# Altium footprint library Resistors THD.PcbLib: 11 footprints
Each footprint in its own frame and in the unit in brackets; x right, y up, seen from the top. Pads: shape width x height; smd on the part's side, far side on the other; paste and mask are expansions set on the pad; w line width, h text height; cw(c..) or ccw(c..) is an arc to the next point about the centre after c.
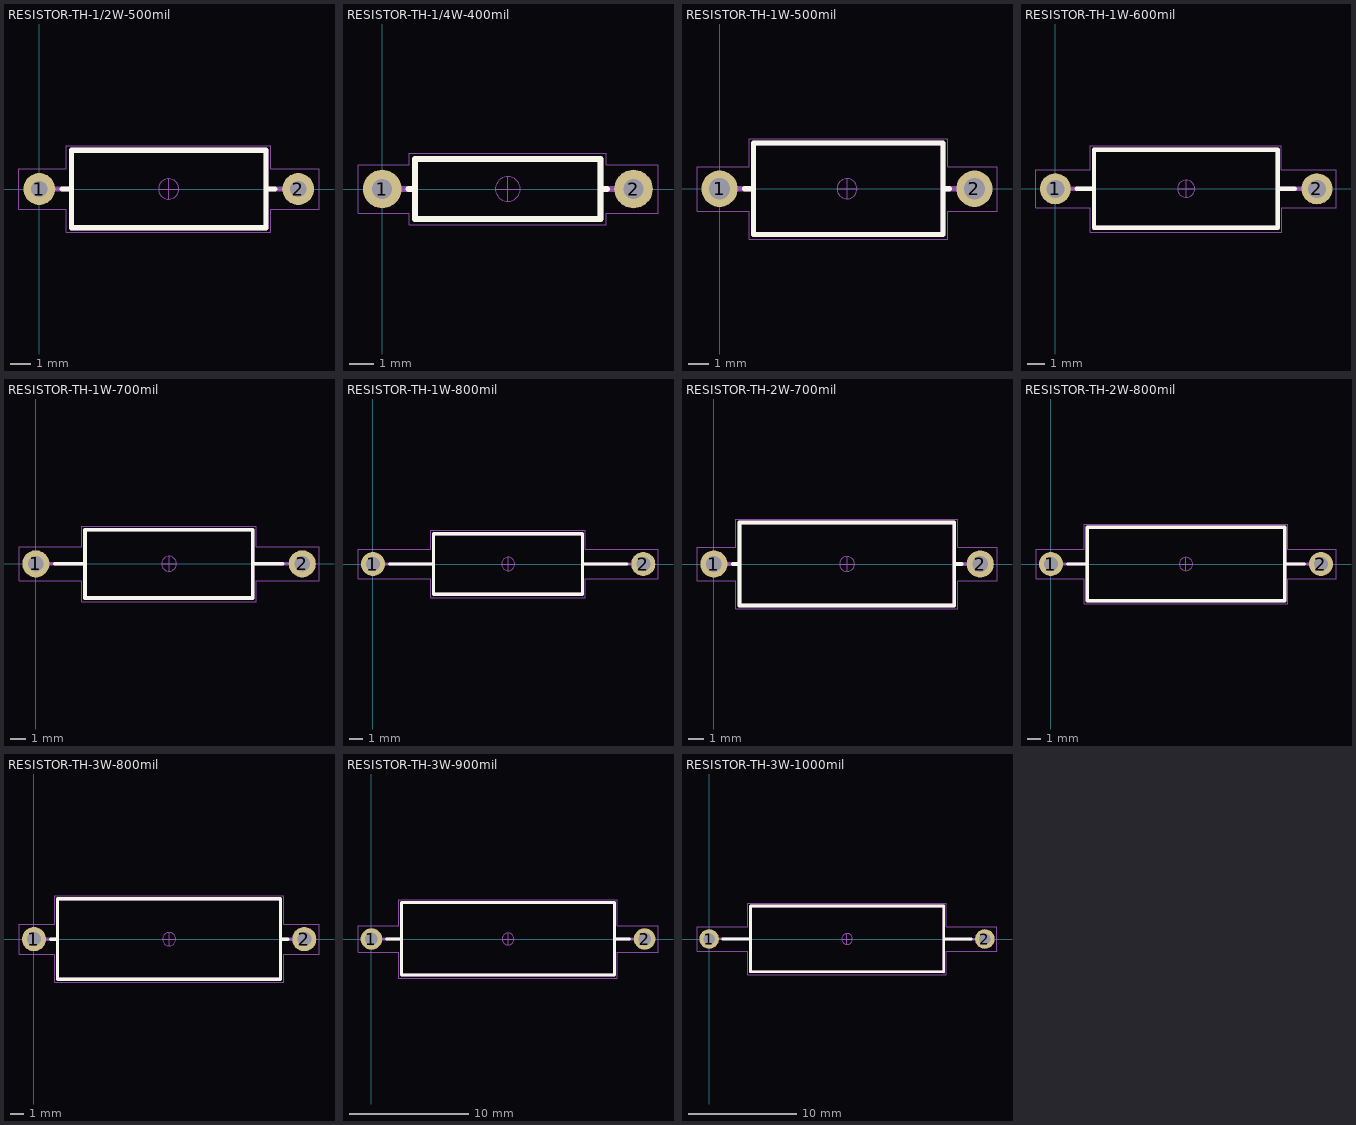
[diagram p0: the footprints below, top view; thin cyan lines are the x and y axes]

## RESISTOR-TH-1/2W-500mil [mm] "Resistor Through-Hole 1/2W pitch 500 mil"
height 3.775
pads (2):
  round 1.56 hole 0.8 mask+0.07: 1(0,0) 2(12.7,0)
Top Overlay:
  lines w0.25: 1.125,0 1.575,0 ; 11.125,0 11.575,0 ; 1.575,-1.9 1.575,1.9 11.125,1.9 11.125,-1.9 1.575,-1.9
Top Component Outline:
  lines w0.25: 0.508,0 1.575,0 ; 11.125,0 12.202,0 ; 1.575,-1.9 1.575,1.9 11.125,1.9 11.125,-1.9 1.575,-1.9
  text "'.Comment'" at 3.007,-1.554 h1.5
Top Courtyard:
  lines w0.05: -1,-1 1.325,-1 1.325,-2.125 11.35,-2.125 11.35,-1 13.725,-1 13.725,1 11.35,1 11.35,2.125 1.325,2.125 1.325,1 -1,1 -1,-1
Top Component Center:
  circle w0.025: c6.35,0 r0.5
  lines w0.025: 5.85,0 6.35,0 ; 6.35,-0.5 6.35,0 ; 6.35,0.5 6.35,0 ; 6.85,0 6.35,0
Top Designator:
  text "'.Designator'" at 2.683,-0.336 h1.5
Top Assembly:
  lines w0.25: 0.508,0 1.575,0 ; 11.125,0 12.202,0 ; 1.575,-1.9 1.575,1.9 11.125,1.9 11.125,-1.9 1.575,-1.9
  text "'.Designator'" at 2.683,-0.336 h1.5
3D body "Res50-Axial 0_5W-1K.step": height 3.78, standoff -5.6, extent -0.375,-1.875 13.075,1.875

## RESISTOR-TH-1/4W-400mil [mm] "Resistor Through-Hole 1/4W pitch 400 mil"
height 2.413
pads (2):
  round 1.56 hole 0.8 mask+0.07: 1(0,0) 2(10.16,0)
Top Overlay:
  lines w0.25: 1.075,0 1.325,0 ; 8.825,-0.002 9.075,-0.002 ; 1.325,-1.211 1.325,1.214 8.825,1.214 8.825,-1.211 1.325,-1.211
Top Component Outline:
  lines w0.25: 0.508,0 1.325,0 ; 8.825,0 9.652,0 ; 1.325,-1.211 1.325,1.214 8.825,1.214 8.825,-1.211 1.325,-1.211
  text "'.Comment'" at 1.737,-0.962 h1.5
Top Courtyard:
  lines w0.05: -0.975,-0.975 1.1,-0.975 1.1,-1.45 9.05,-1.45 9.05,-0.975 11.15,-0.975 11.15,0.975 9.05,0.975 9.05,1.45 1.1,1.45 1.1,0.975 -0.975,0.975 -0.975,-0.975
Top Component Center:
  circle w0.025: c5.08,0 r0.5
  lines w0.025: 4.58,0 5.08,0 ; 5.08,-0.5 5.08,0 ; 5.08,0.5 5.08,0 ; 5.58,0 5.08,0
Top Designator:
  text "'.Designator'" at 1.413,-0.336 h1.5
Top Assembly:
  lines w0.25: 0.508,0 1.325,0 ; 8.825,0 9.652,0 ; 1.325,-1.211 1.325,1.214 8.825,1.214 8.825,-1.211 1.325,-1.211
  text "'.Designator'" at 1.413,-0.336 h1.5
3D body "Res40-Axial 0_25W-1K.step": height 2.41, standoff -2, extent -0.3,-1.2 10.46,1.2

## RESISTOR-TH-1W-500mil [mm] "Resistor Through-Hole 1W pitch 500 mil"
height 4.52
pads (2):
  round 1.81 hole 1.05 mask+0.07: 1(0,0) 2(12.7,0)
Top Overlay:
  lines w0.25: 1.25,0 1.7,0 ; 11.125,0 11.45,0 ; 1.7,-2.275 1.7,2.275 11.125,2.275 11.125,-2.275 1.7,-2.275
Top Component Outline:
  lines w0.25: 0.508,0 1.575,0 ; 11.125,0 12.202,0 ; 1.7,-2.275 1.7,2.275 11.125,2.275 11.125,-2.275 1.7,-2.275
  text "'.Comment'" at 3.007,-1.979 h1.5
Top Courtyard:
  lines w0.05: -1.125,-1.125 1.475,-1.125 1.475,-2.525 11.375,-2.525 11.375,-1.125 13.825,-1.125 13.825,1.1 11.375,1.1 11.375,2.5 1.475,2.5 1.475,1.1 -1.125,1.1 -1.125,-1.125
Top Component Center:
  circle w0.025: c6.35,0 r0.5
  lines w0.025: 5.85,0 6.35,0 ; 6.35,-0.5 6.35,0 ; 6.35,0.5 6.35,0 ; 6.85,0 6.35,0
Top Designator:
  text "'.Designator'" at 2.683,-0.336 h1.5
Top Assembly:
  lines w0.25: 0.508,0 1.575,0 ; 11.125,0 12.202,0 ; 1.7,-2.275 1.7,2.275 11.125,2.275 11.125,-2.275 1.7,-2.275
  text "'.Designator'" at 2.683,-0.336 h1.5
3D body "Res50 1W SilCoat.step": height 4.52, standoff -2, extent -0.375,-2.25 13.075,2.25

## RESISTOR-TH-1W-600mil [mm] "Resistor Through-Hole 1W pitch 600 mil"
height 4.52
pads (2):
  round 1.81 hole 1.05 mask+0.07: 1(0,0) 2(15.24,0)
Top Overlay:
  lines w0.25: 1.25,0 2.25,0 ; 12.95,0 13.95,0 ; 2.25,-2.275 12.95,-2.275 12.95,2.275 2.25,2.275 2.25,-2.275
Top Component Outline:
  lines w0.25: 0.508,0 2.25,0 ; 12.95,0 14.602,0 ; 2.25,-2.275 12.95,-2.275 12.95,2.275 2.25,2.275 2.25,-2.275
  text "'.Comment'" at 4.277,-1.979 h1.5
Top Courtyard:
  lines w0.05: -1.125,-1.1 -1.125,1.1 2.025,1.1 2.025,2.5 13.175,2.5 13.175,1.1 16.35,1.1 16.35,-1.1 13.2,-1.1 13.2,-2.525 2.025,-2.525 2.025,-1.1 -1.125,-1.1
Top Component Center:
  circle w0.025: c7.62,0 r0.5
  lines w0.025: 7.12,0 7.62,0 ; 7.62,-0.5 7.62,0 ; 7.62,0.5 7.62,0 ; 8.12,0 7.62,0
Top Designator:
  text "'.Designator'" at 3.953,-0.336 h1.5
Top Assembly:
  lines w0.25: 0.508,0 2.25,0 ; 12.95,0 14.602,0 ; 2.25,-2.275 12.95,-2.275 12.95,2.275 2.25,2.275 2.25,-2.275
  text "'.Designator'" at 3.953,-0.336 h1.5
3D body "Res60 1W SilCoat Master.step": height 4.52, standoff -2, extent -0.37,-2.25 15.62,2.25

## RESISTOR-TH-1W-700mil [mm] "Resistor Through-Hole 1W pitch 700 mil"
height 4.52
pads (2):
  round 1.81 hole 1.05 mask+0.07: 1(0,0) 2(17.78,0)
Top Overlay:
  lines w0.25: 1.265,0 3.265,0 ; 14.475,0 16.475,0 ; 3.275,-2.275 14.475,-2.275 14.475,2.275 3.275,2.275 3.275,-2.275
Top Component Outline:
  lines w0.25: 0.508,0 3.275,0 ; 14.475,0 17.127,0 ; 3.275,-2.275 14.475,-2.275 14.475,2.275 3.275,2.275 3.275,-2.275
  text "'.Comment'" at 5.547,-1.979 h1.5
Top Courtyard:
  lines w0.05: -1.125,-1.125 -1.125,1.125 3.05,1.125 3.05,2.5 14.725,2.5 14.725,1.125 18.9,1.125 18.9,-1.125 14.725,-1.125 14.725,-2.525 3.05,-2.525 3.05,-1.125 -1.125,-1.125
Top Component Center:
  circle w0.025: c8.89,0 r0.5
  lines w0.025: 8.39,0 8.89,0 ; 8.89,-0.5 8.89,0 ; 8.89,0.5 8.89,0 ; 9.39,0 8.89,0
Top Designator:
  text "'.Designator'" at 5.223,-0.336 h1.5
Top Assembly:
  lines w0.25: 0.508,0 3.275,0 ; 14.475,0 17.127,0 ; 3.275,-2.275 14.475,-2.275 14.475,2.275 3.275,2.275 3.275,-2.275
  text "'.Designator'" at 5.223,-0.336 h1.5
3D body "Res70 1W SilCoat.step": height 4.52, standoff -2, extent -0.375,-2.25 18.155,2.25

## RESISTOR-TH-1W-800mil [mm] "Resistor Through-Hole 1W pitch 800 mil"
height 4.52
pads (2):
  round 1.81 hole 1.05 mask+0.07: 1(0,0) 2(20.32,0)
Top Overlay:
  lines w0.25: 1.25,0 4.55,0 ; 15.775,0 19.075,0 ; 4.55,-2.275 15.75,-2.275 15.75,2.275 4.55,2.275 4.55,-2.275
Top Component Outline:
  lines w0.25: 0.508,0 4.55,0 ; 15.75,0 19.652,0 ; 4.55,-2.275 15.75,-2.275 15.75,2.275 4.55,2.275 4.55,-2.275
  text "'.Comment'" at 6.817,-1.979 h1.5
Top Courtyard:
  lines w0.05: -1.125,-1.125 -1.125,1.125 4.325,1.125 4.325,2.525 15.975,2.525 15.975,1.125 21.425,1.125 21.425,-1.125 15.975,-1.125 15.975,-2.525 4.325,-2.525 4.325,-1.125 -1.125,-1.125
Top Component Center:
  circle w0.025: c10.16,0 r0.5
  lines w0.025: 9.66,0 10.16,0 ; 10.16,-0.5 10.16,0 ; 10.16,0.5 10.16,0 ; 10.66,0 10.16,0
Top Designator:
  text "'.Designator'" at 6.493,-0.336 h1.5
Top Assembly:
  lines w0.25: 0.508,0 4.55,0 ; 15.75,0 19.652,0 ; 4.55,-2.275 15.75,-2.275 15.75,2.275 4.55,2.275 4.55,-2.275
  text "'.Designator'" at 6.493,-0.336 h1.5
3D body "Res80 1W SilCoat.step": height 4.52, standoff -2, extent -0.375,-2.25 20.695,2.25

## RESISTOR-TH-2W-700mil [mm] "Resistor Through-Hole 2W pitch 700 mil"
height 5.27
pads (2):
  round 1.81 hole 1.05 mask+0.07: 1(0,0) 2(17.78,0)
Top Overlay:
  lines w0.25: 1.265,0 1.715,0 ; 16.075,0 16.525,0 ; 1.715,-2.775 16.05,-2.775 16.05,2.775 1.715,2.775 1.715,-2.775
Top Component Outline:
  lines w0.25: 0.508,0 1.575,0 ; 16.05,0 17.127,0 ; 1.715,-2.775 1.715,2.775 16.05,2.775 16.05,-2.775 1.715,-2.775
  text "'.Comment'" at 5.547,-2.479 h1.5
Top Courtyard:
  lines w0.05: -1.125,-1.125 -1.125,1.125 1.475,1.125 1.475,3 16.275,3 16.275,1.125 18.9,1.125 18.9,-1.125 16.275,-1.125 16.275,-3 1.475,-3 1.475,-1.125 -1.125,-1.125
Top Component Center:
  circle w0.025: c8.89,0 r0.5
  lines w0.025: 8.39,0 8.89,0 ; 8.89,-0.5 8.89,0 ; 8.89,0.5 8.89,0 ; 9.39,0 8.89,0
Top Designator:
  text "'.Designator'" at 5.223,-0.336 h1.5
Top Assembly:
  lines w0.25: 0.508,0 1.575,0 ; 16.05,0 17.127,0 ; 1.715,-2.775 16.05,-2.775 16.05,2.775 1.715,2.775 1.715,-2.775
  text "'.Designator'" at 5.223,-0.336 h1.5
3D body "Res70 2W SilCoat.step": height 5.27, standoff -2, extent -0.375,-2.875 18.215,2.625

## RESISTOR-TH-2W-800mil [mm] "Resistor Through-Hole 2W pitch 800 mil"
height 5.27
pads (2):
  round 1.81 hole 1.05 mask+0.07: 1(0,0) 2(20.32,0)
Top Overlay:
  lines w0.25: 1.265,0 2.731,0 ; 17.6,0 19.066,0 ; 2.735,-2.775 2.735,2.775 17.585,2.775 17.585,-2.775 2.735,-2.775
Top Component Outline:
  lines w0.25: 0.508,0 2.735,0 ; 17.585,0 19.649,0 ; 2.735,-2.775 2.735,2.775 17.585,2.775 17.585,-2.775 2.735,-2.775
  text "'.Comment'" at 6.817,-2.479 h1.5
Top Courtyard:
  lines w0.05: -1.125,-1.125 2.5,-1.125 2.5,-3 17.825,-3 17.825,-1.125 21.45,-1.125 21.45,1.125 17.825,1.125 17.825,3 2.5,3 2.5,1.125 -1.125,1.125 -1.125,-1.125
Top Component Center:
  circle w0.025: c10.16,0 r0.5
  lines w0.025: 9.66,0 10.16,0 ; 10.16,-0.5 10.16,0 ; 10.16,0.5 10.16,0 ; 10.66,0 10.16,0
Top Designator:
  text "'.Designator'" at 6.493,-0.336 h1.5
Top Assembly:
  lines w0.25: 0.508,0 2.735,0 ; 17.585,0 19.652,0 ; 2.735,-2.775 2.735,2.775 17.585,2.775 17.585,-2.775 2.735,-2.775
  text "'.Designator'" at 6.493,-0.336 h1.5
3D body "Res80 2W SilCoat.step": height 5.27, standoff -2, extent -0.405,-2.75 20.725,2.75

## RESISTOR-TH-3W-800mil [mm] "Resistor Through-Hole 3W pitch 800 mil"
height 6.03
pads (2):
  round 1.81 hole 1.05 mask+0.07: 1(0,0) 2(20.32,0)
Top Overlay:
  lines w0.25: 1.265,0 1.765,0 ; 18.525,0 19.065,0 ; 1.775,-3.025 1.775,3.05 18.525,3.05 18.525,-3.025 1.775,-3.025
Top Component Outline:
  lines w0.25: 0.508,0 1.775,0.012 ; 18.525,0 19.649,0 ; 1.775,-3.025 1.775,3.05 18.525,3.05 18.525,-3.025 1.775,-3.025
  text "'.Comment'" at 6.817,-2.479 h1.5
Top Courtyard:
  lines w0.05: -1.125,-1.125 -1.125,1.125 1.55,1.125 1.55,3.275 18.775,3.275 18.775,1.125 21.425,1.125 21.425,-1.125 18.775,-1.125 18.775,-3.25 1.55,-3.25 1.55,-1.125 -1.125,-1.125
Top Component Center:
  circle w0.025: c10.16,0 r0.5
  lines w0.025: 9.66,0 10.16,0 ; 10.16,-0.5 10.16,0 ; 10.16,0.5 10.16,0 ; 10.66,0 10.16,0
Top Designator:
  text "'.Designator'" at 6.493,-0.336 h1.5
Top Assembly:
  lines w0.25: 0.508,0 1.775,0 ; 18.525,0 19.652,0 ; 1.775,-3.025 1.775,3.05 18.525,3.05 18.525,-3.025 1.775,-3.025
  text "'.Designator'" at 6.493,-0.336 h1.5
3D body "Res80 3W SilCoat.step": height 6.03, standoff -2, extent -0.405,-3.01 20.725,3.01

## RESISTOR-TH-3W-900mil [mm] "Resistor Through-Hole 3W pitch 900 mil"
height 6.03
pads (2):
  round 1.81 hole 1.05 mask+0.07: 1(0,0) 2(22.86,0)
Top Overlay:
  lines w0.25: 1.255,0 2.525,0 ; 20.33,0 21.6,0 ; 2.53,-3.025 2.53,3.05 20.33,3.05 20.33,-3.025 2.53,-3.025
Top Component Outline:
  lines w0.25: 0.508,0 2.53,0.012 ; 20.33,0.012 22.305,0.012 ; 2.53,-3.025 2.53,3.05 20.33,3.05 20.33,-3.025 2.53,-3.025
  text "'.Comment'" at 8.087,-2.654 h1.5
Top Courtyard:
  lines w0.05: -1.125,-1.125 2.3,-1.125 2.3,-3.275 20.575,-3.275 20.575,-1.125 23.975,-1.125 23.975,1.125 20.575,1.125 20.575,3.275 2.3,3.275 2.3,1.125 -1.125,1.125 -1.125,-1.125
Top Component Center:
  circle w0.025: c11.43,0 r0.5
  lines w0.025: 10.93,0 11.43,0 ; 11.43,-0.5 11.43,0 ; 11.43,0.5 11.43,0 ; 11.93,0 11.43,0
Top Designator:
  text "'.Designator'" at 7.763,-0.361 h1.5
Top Assembly:
  lines w0.25: 0.508,0 2.53,0.012 ; 20.33,0.01 22.277,0 ; 2.53,-3.025 20.33,-3.025 20.33,3.05 2.53,3.05 2.53,-3.025
  text "'.Designator'" at 7.763,-0.361 h1.5
3D body "Res90 3W SilCoat.step": height 6.03, standoff -2, extent -0.405,-3.01 23.265,3.01

## RESISTOR-TH-3W-1000mil [mm] "Resistor Through-Hole 3W pitch 1000 mil"
height 6.03
pads (2):
  round 1.81 hole 1.05 mask+0.07: 1(0,0) 2(25.4,0)
Top Overlay:
  lines w0.25: 1.255,0 3.795,0 ; 21.605,0 24.145,0 ; 3.8,-3.025 3.8,3.05 21.605,3.05 21.605,-3.025 3.8,-3.025
Top Component Outline:
  lines w0.25: 0.508,0 3.8,0.012 ; 21.605,-0.012 24.825,-0.012 ; 3.8,-3.025 21.605,-3.025 21.605,3.05 3.8,3.05 3.8,-3.025
  text "'.Comment'" at 9.357,-2.679 h1.5
Top Courtyard:
  lines w0.05: -1.125,-1.125 3.575,-1.125 3.575,-3.275 21.85,-3.275 21.85,-1.125 26.525,-1.125 26.525,1.125 21.85,1.125 21.85,3.275 3.575,3.275 3.575,1.125 -1.125,1.125 -1.125,-1.125
Top Component Center:
  circle w0.025: c12.7,0 r0.5
  lines w0.025: 12.2,0 12.7,0 ; 12.7,-0.5 12.7,0 ; 12.7,0.5 12.7,0 ; 13.2,0 12.7,0
Top Designator:
  text "'.Designator'" at 9.033,-0.336 h1.5
Top Assembly:
  lines w0.25: 0.508,0 3.8,0.012 ; 21.605,-3.05 21.605,3.025 ; 21.605,-3.025 3.8,-3.025 3.8,3.05 21.605,3.05 ; 21.605,-0.015 24.85,-0.032
  text "'.Designator'" at 9.033,-0.336 h1.5
3D body "Res100 3W SilCoat.step": height 6.03, standoff -2, extent -0.405,-3.01 25.805,3.01